# Altium integrated library SK34A-LTP.IntLib: 1 symbol
Pins are listed as number, name and electrical type; pins without a type are passive.

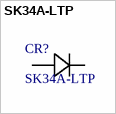
[diagram p0: symbol SK34A-LTP]

## SK34A-LTP
designator CR?
Description; Manufacturer_Name: MCC; Type: Diodes - Rectifiers, Single; Copyright: Copyright (C) 2025 Ultra Librarian. All rights reserved.; Manufacturer_Part_Number: SK34A-LTP
footprint SMADO-214AC_MCC
pins: 1 CATHODE, 2 ANODE